# EAGLE library part AD5722R (library wg_library)
Complete, Dual, 12-/14-/16-Bit, Serial Input, Unipolar/Bipolar, Voltage Output DACs Source: https://www.analog.com/media/en/technical-documentation/data-sheets/AD5722R_5732R_5752R.pdf
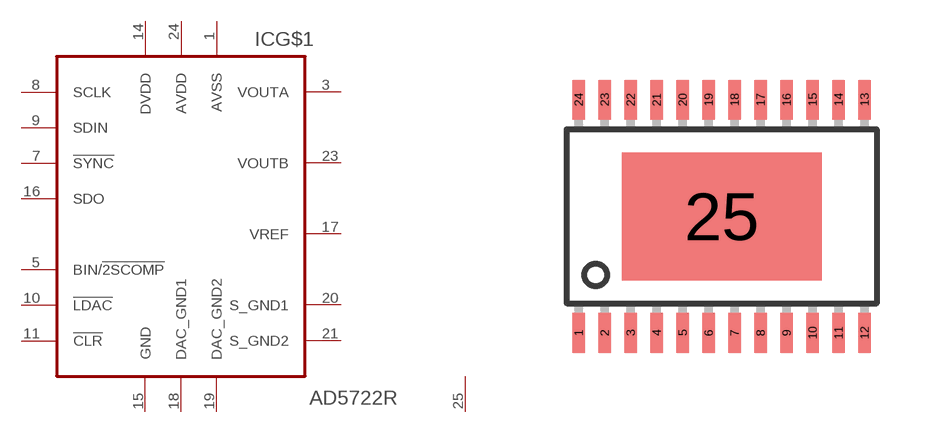
[diagram p9: symbol with the pads of TSSOP24; footprint TSSOP24]

Designator prefix IC; gates G$1=AD5722 G$2=THERMAL

## AD5722R-RE24  [TSSOP24]
1  G$1:AVSS  pwr
3  G$1:VOUTA  out
5  G$1:BIN/!2SCOMP  in
7  G$1:!SYNC  in
8  G$1:SCLK  in
9  G$1:SDIN  in
10  G$1:!LDAC  in
11  G$1:!CLR  in
14  G$1:DVDD  pwr
15  G$1:GND  pwr
16  G$1:SDO  out
17  G$1:VREF  out
18  G$1:DAC_GND1  pwr
19  G$1:DAC_GND2  pwr
20  G$1:S_GND1  pwr
21  G$1:S_GND2  pwr
23  G$1:VOUTB  out
24  G$1:AVDD  pwr
25  G$2:TH  pas

## Footprint TSSOP24 (pad centres in mm)
smd 0.305 x 0.991: 1 -3.575,-2.918; 2 -2.925,-2.918; 3 -2.275,-2.918; 4 -1.625,-2.918; 5 -0.975,-2.918; 6 -0.325,-2.918; 7 0.325,-2.918; 8 0.975,-2.918; 9 1.625,-2.918; 10 2.275,-2.918; 11 2.925,-2.918; 12 3.575,-2.918; 13 3.575,2.918; 14 2.925,2.918; 15 2.275,2.918; 16 1.625,2.918; 17 0.975,2.918; 18 0.325,2.918; 19 -0.325,2.918; 20 -0.975,2.918; 21 -1.625,2.918; 22 -2.275,2.918; 23 -2.925,2.918; 24 -3.575,2.918
smd 5 x 3.2: 25 0,0